# EAGLE library part LTC2912-1 (library be_vreg_vref)
edited: Mario Blunk / Blunk electronic
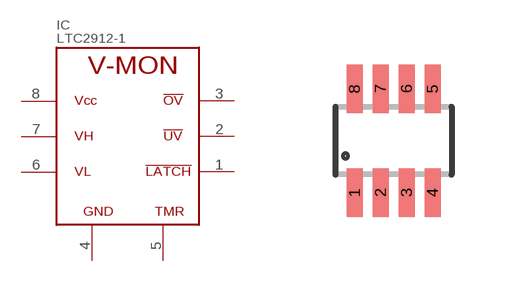
[diagram p0: symbol with the pads of S_TSOT23-8; footprint S_TSOT23-8]

Designator prefix IC

## LTC2912-1 (BOM: YES; COMMISSIONED: 2014-09-05; PART_CODE_BEL: IC_PAC_S_TSOT23-8_VAL_LTC2912ITS8-1)  [S_TSOT23-8]
1  LATCH  in
2  UV  out
3  OV  out
4  GND  pwr
5  TMR  pas
6  VL  pas
7  VH  pas
8  VCC  pwr

## Footprint S_TSOT23-8 (pad centres in mm)
edited: Mario Blunk / Blunk electronic date: 2014-09-05
smd 0.4 x 1.22: 1 -0.975,-1.3; 2 -0.325,-1.3; 3 0.325,-1.3; 4 0.975,-1.3; 5 0.975,1.3; 6 0.325,1.3; 7 -0.325,1.3; 8 -0.975,1.3